# Altium schematic symbol library STM32G071EBY6TR.SchLib: 1 symbol
Pins are listed as number, name and electrical type; pins without a type are passive.

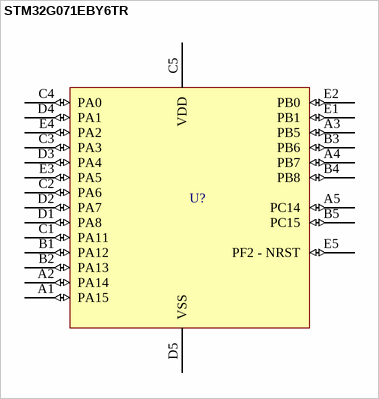
[diagram p0: symbol STM32G071EBY6TR]

## STM32G071EBY6TR
designator U?  (value not drawn)
Mainstream Arm Cortex-M0+ MCU with 128 Kbytes of Flash memory, 36 Kbytes RAM, 64 MHz CPU, 4x USART, timers, ADC, DAC, comm. I/F, 1.7-3.6V
pins: A1 PA15 (io), A2 PA14 (io), A3 PB5 (io), A4 PB7 (io), A5 PC14 (io), B1 PA12 (io), B2 PA13 (io), B3 PB6 (io), B4 PB8 (io), B5 PC15 (io), C1 PA11 (io), C2 PA6 (io), C3 PA3 (io), C4 PA0 (io), C5 VDD (power), D1 PA8 (io), D2 PA7 (io), D3 PA4 (io), D4 PA1 (io), D5 VSS (power), E1 PB1 (io), E2 PB0 (io), E3 PA5 (io), E4 PA2 (io), E5 PF2 - NRST (io)